# Altium footprint library Capacitors.PcbLib: 46 footprints (part 3 of 3)
Each footprint in its own frame and in the unit in brackets; x right, y up, seen from the top. Pads: shape width x height; smd on the part's side, far side on the other; paste and mask are expansions set on the pad; w line width, h text height; cw(c..) or ccw(c..) is an arc to the next point about the centre after c.
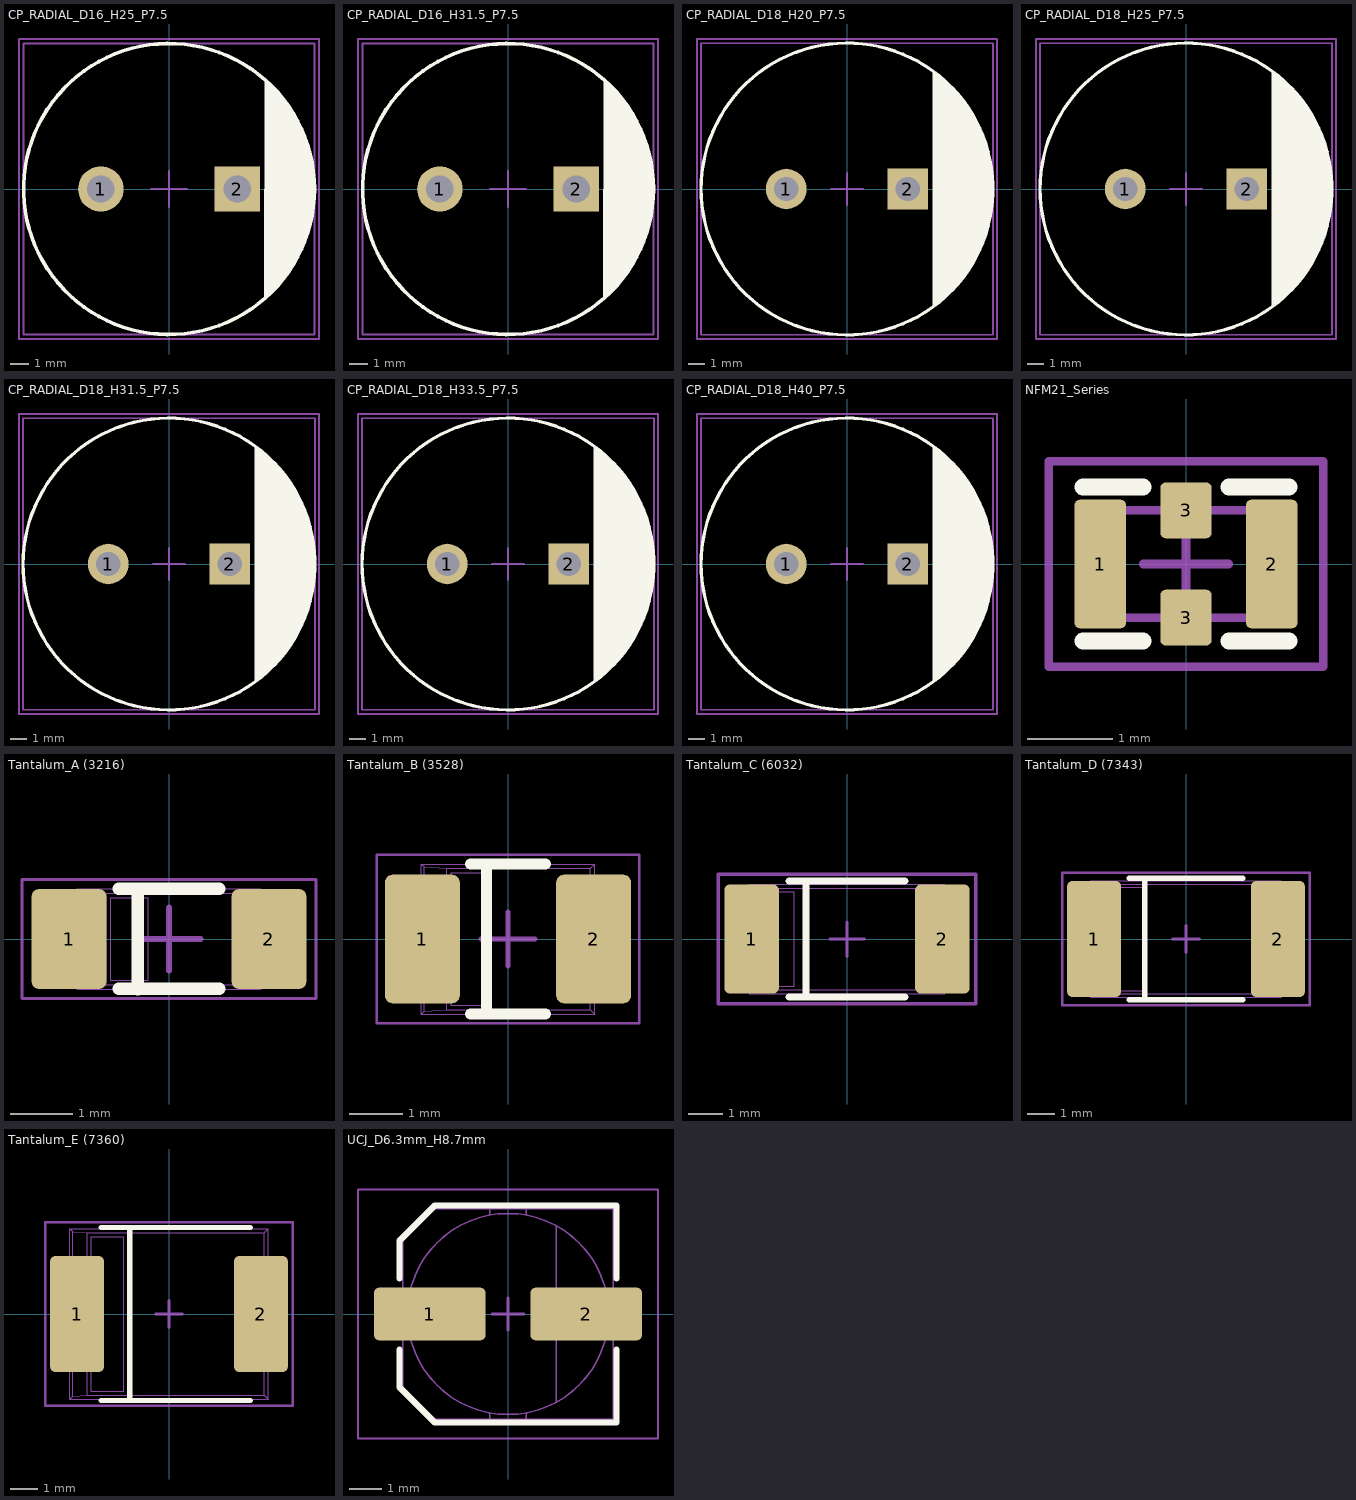
[diagram p2: the footprints below, top view; thin cyan lines are the x and y axes]

## CP_RADIAL_D16_H25_P7.5 [mm]
pads (2):
  round 2.5 hole 1.5 unplated: 1(-3.75,0)
  rect 2.5x2.5 hole 1.5 unplated: 2(3.75,0)
Top Overlay:
  region: 5.268,6.021 5.589,5.74 6.167,5.113 6.676,4.429 7.109,3.694 7.461,2.917 7.729,2.108 7.909,1.274 8,0.426 8,-0.426 7.909,-1.274 7.729,-2.108 7.461,-2.917 7.109,-3.694 6.676,-4.429 6.167,-5.113 5.589,-5.74 5.268,-6.021 5.25,-6
  lines w0.2: 5.268,-6.021 ccw(c0,0) 5.268,6.021 ccw(c0,0) 5.268,-6.021
Mechanical 1:
  lines w0.1: 8,-8 8,8 ; 8,-8 8,-8 ; 8,-8 -8,-8 -8,8 8,8 ; 8,8 8,8
Mechanical 3:
  lines w0.1: -1,0 1,0 ; 0,-1 0,1 ; -8.25,-8.25 8.25,-8.25 8.25,8.25 -8.25,8.25 -8.25,-8.25
3D body "CP_Radial_D16.00mm_H25.00mm_P7.50mm.STEP": height 25.1, standoff -2.8, extent -8,-7.998 8,7.998

## CP_RADIAL_D16_H31.5_P7.5 [mm]
pads (2):
  round 2.5 hole 1.5 unplated: 1(-3.75,0)
  rect 2.5x2.5 hole 1.5 unplated: 2(3.75,0)
Top Overlay:
  region: 5.268,6.021 5.589,5.74 6.167,5.113 6.676,4.429 7.109,3.694 7.461,2.917 7.729,2.108 7.909,1.274 8,0.426 8,-0.426 7.909,-1.274 7.729,-2.108 7.461,-2.917 7.109,-3.694 6.676,-4.429 6.167,-5.113 5.589,-5.74 5.268,-6.021 5.25,-6
  lines w0.2: 5.268,-6.021 cw(c0,0) 5.268,6.021 cw(c0,0) 5.268,-6.021
Mechanical 1:
  lines w0.1: 8,-8 -8,-8 -8,8 8,8 ; 8,-8 8,-8 ; 8,-8 8,8 ; 8,8 8,8
Mechanical 15:
  lines w0.1: -1,0 1,0 ; 0,-1 0,1 ; -8.25,-8.25 -8.25,8.25 8.25,8.25 8.25,-8.25 -8.25,-8.25
3D body "CP_Radial_D16.00mm_H31.50mm_P7.50mm.STEP": height 31.6, standoff -2.8, extent -8,-7.999 8,7.999

## CP_RADIAL_D18_H20_P7.5 [mm]
pads (2):
  round 2.5 hole 1.5 unplated: 1(-3.75,0)
  rect 2.5x2.5 hole 1.5 unplated: 2(3.75,0)
Top Overlay:
  region: 5.279,7.289 5.623,7.04 6.262,6.479 6.844,5.86 7.366,5.188 7.823,4.471 8.209,3.714 8.523,2.923 8.76,2.107 8.92,1.272 9,0.425 9,-0.425 8.92,-1.272 8.76,-2.107 8.523,-2.923 8.209,-3.714 7.823,-4.471 7.366,-5.188 6.844,-5.86 6.262,-6.479 5.623,-7.04 5.279,-7.289 5.279,-7.29
  lines w0.2: 5.279,-7.289 ccw(c0,0) 5.279,7.289 ccw(c0,0) 5.279,-7.29
Mechanical 1:
  lines w0.1: -9,-8.999 -9,8.999 9,8.999 9,-8.999 -9,-8.999
Mechanical 15:
  lines w0.1: -1,0 1,0 ; 0,-1 0,1 ; -9.25,-9.25 -9.25,9.25 9.25,9.25 9.25,-9.25 -9.25,-9.25
3D body "CP_Radial_D18.00mm_H20.00mm_P7.50mm.STEP": height 20.1, standoff -2.8, extent -9,-8.999 9,8.999

## CP_RADIAL_D18_H25_P7.5 [mm]
pads (2):
  round 2.5 hole 1.5 unplated: 1(-3.75,0)
  rect 2.5x2.5 hole 1.5 unplated: 2(3.75,0)
Top Overlay:
  region: 5.279,7.289 5.623,7.04 6.262,6.479 6.844,5.86 7.366,5.188 7.823,4.471 8.209,3.714 8.523,2.923 8.76,2.107 8.92,1.272 9,0.425 9,-0.425 8.92,-1.272 8.76,-2.107 8.523,-2.923 8.209,-3.714 7.823,-4.471 7.366,-5.188 6.844,-5.86 6.262,-6.479 5.623,-7.04 5.279,-7.289 5.279,-7.29
  lines w0.2: 5.279,-7.289 ccw(c0,0) 5.279,7.289 ccw(c0,0) 5.279,-7.29
Mechanical 1:
  lines w0.1: -9,-8.999 -9,8.999 9,8.999 9,-8.999 -9,-8.999
Mechanical 15:
  lines w0.1: -1,0 1,0 ; 0,-1 0,1 ; -9.25,-9.25 -9.25,9.25 9.25,9.25 9.25,-9.25 -9.25,-9.25
3D body "CP_Radial_D18.00mm_H25.00mm_P7.50mm.STEP": height 25.1, standoff -2.8, extent -9,-8.998 9,8.998

## CP_RADIAL_D18_H31.5_P7.5 [mm]
pads (2):
  round 2.5 hole 1.5 unplated: 1(-3.75,0)
  rect 2.5x2.5 hole 1.5 unplated: 2(3.75,0)
Top Overlay:
  region: 5.279,7.289 5.623,7.04 6.262,6.479 6.844,5.86 7.366,5.188 7.823,4.471 8.209,3.714 8.523,2.923 8.76,2.107 8.92,1.272 9,0.425 9,-0.425 8.92,-1.272 8.76,-2.107 8.523,-2.923 8.209,-3.714 7.823,-4.471 7.366,-5.188 6.844,-5.86 6.262,-6.479 5.623,-7.04 5.279,-7.289 5.279,-7.29
  lines w0.2: 5.279,-7.29 cw(c0,0) 5.279,7.289 cw(c0,0) 5.279,-7.289
Mechanical 1:
  lines w0.1: -9,-8.999 9,-8.999 9,8.999 -9,8.999 -9,-8.999
Mechanical 15:
  lines w0.1: -1,0 1,0 ; 0,-1 0,1 ; -9.25,-9.25 9.25,-9.25 9.25,9.25 -9.25,9.25 -9.25,-9.25
3D body "CP_Radial_D18.00mm_H31.50mm_P7.50mm.STEP": height 31.6, standoff -2.8, extent -9,-8.999 9,8.999

## CP_RADIAL_D18_H33.5_P7.5 [mm]
pads (2):
  round 2.5 hole 1.5 unplated: 1(-3.75,0)
  rect 2.5x2.5 hole 1.5 unplated: 2(3.75,0)
Top Overlay:
  region: 5.279,7.289 5.623,7.04 6.262,6.479 6.844,5.86 7.366,5.188 7.823,4.471 8.209,3.714 8.523,2.923 8.76,2.107 8.92,1.272 9,0.425 9,-0.425 8.92,-1.272 8.76,-2.107 8.523,-2.923 8.209,-3.714 7.823,-4.471 7.366,-5.188 6.844,-5.86 6.262,-6.479 5.623,-7.04 5.279,-7.289 5.279,-7.29
  lines w0.2: 5.279,-7.289 ccw(c0,0) 5.279,7.289 ccw(c0,0) 5.279,-7.29
Mechanical 1:
  lines w0.1: -9,-8.999 -9,8.999 9,8.999 9,-8.999 -9,-8.999
Mechanical 15:
  lines w0.1: -1,0 1,0 ; 0,-1 0,1 ; -9.25,-9.25 -9.25,9.25 9.25,9.25 9.25,-9.25 -9.25,-9.25
3D body "CP_Radial_D18.00mm_H33.50mm_P7.50mm.STEP": height 33.6, standoff -2.8, extent -9,-9 9,9

## CP_RADIAL_D18_H40_P7.5 [mm]
pads (2):
  round 2.5 hole 1.5 unplated: 1(-3.75,0)
  rect 2.5x2.5 hole 1.5 unplated: 2(3.75,0)
Top Overlay:
  region: 5.279,7.289 5.623,7.04 6.262,6.479 6.844,5.86 7.366,5.188 7.823,4.471 8.209,3.714 8.523,2.923 8.76,2.107 8.92,1.272 9,0.425 9,-0.425 8.92,-1.272 8.76,-2.107 8.523,-2.923 8.209,-3.714 7.823,-4.471 7.366,-5.188 6.844,-5.86 6.262,-6.479 5.623,-7.04 5.279,-7.289 5.279,-7.29
  lines w0.2: 5.279,-7.29 cw(c0,0) 5.279,7.289 cw(c0,0) 5.279,-7.289
Mechanical 1:
  lines w0.1: -9,-8.999 9,-8.999 9,8.999 -9,8.999 -9,-8.999
Mechanical 15:
  lines w0.1: -1,0 1,0 ; 0,-1 0,1 ; -9.25,-9.25 9.25,-9.25 9.25,9.25 -9.25,9.25 -9.25,-9.25
3D body "CP_Radial_D18.00mm_H40.00mm_P7.50mm.STEP": height 40.1, standoff -2.8, extent -9,-8.996 9,8.996

## NFM21_Series [mm]
pads (4):
  rrect20% 0.6x1.5 smd: 1(-1,0) 2(1,0)
  rrect20% 0.6x0.65 smd: 3(0,-0.625) 3(0,0.625)
Top Overlay:
  lines w0.2: -1.2,-0.9 -0.5,-0.9 ; -1.2,0.9 -0.5,0.9 ; 0.5,-0.9 1.2,-0.9 ; 0.5,0.9 1.2,0.9
Mechanical 1:
  lines w0.1: -1,-0.625 -1,0.625 1,0.625 1,-0.625 -1,-0.625
Mechanical 15:
  lines w0.1: -0.5,0 0.5,0 ; 0,-0.5 0,0.5 ; -1.6,-1.2 -1.6,1.2 1.6,1.2 1.6,-1.2 -1.6,-1.2
3D body "Murata NFM21.STEP": height 0.95, standoff 0, extent -1,-0.625 1,0.625

## Tantalum_A (3216) [mm] "Tantalum Chip Capacitor, 2-Leads, Body 3.2x1.6mm, IPC Medium Density"
pads (2):
  rrect20% 1.2x1.6 smd: 1(-1.6,0) 2(1.6,0)
Top Overlay:
  lines w0.2: -0.8,-0.8 0.8,-0.8 ; -0.8,0.8 0.8,0.8 ; -0.5,-0.8 -0.5,0.8
Mechanical 1:
  lines w0.01: -1.6,-0.2 -1.47,-0.2 ; -1.6,0.2 -1.47,0.2 ; -1.513,-0.6 -1.513,-0.2 ; -1.513,0.2 -1.513,0.6 ; -1.47,-0.6 -1.6,-0.6 -1.6,0.6 -1.47,0.6 ; 1.47,-0.6 1.6,-0.6 1.6,0.6 1.47,0.6 ; 1.513,-0.6 1.513,0.6 ; -1.47,-0.8 1.47,-0.8 ; -1.47,-0.8 -1.428,-0.758 ; -1.47,-0.8 -1.47,0.8 ; -1.47,0.8 -1.428,0.758 ; -1.47,0.8 1.47,0.8 ; -1.428,-0.758 -1.428,0.758 ; -1.428,-0.758 -1,-0.73 ; -1.428,0.758 -1,0.73 ; -1,-0.73 -1,0.73 ; -1,-0.73 1.4,-0.73 ; -1,0.73 1.4,0.73 ; 1.4,-0.73 1.47,-0.8 ; 1.4,-0.73 1.4,0.73 ; 1.4,0.73 1.47,0.8 ; 1.47,-0.8 1.47,0.8 ; -0.931,-0.661 -0.331,-0.661 -0.331,0.661 -0.931,0.661 -0.931,-0.661
Mechanical 15:
  lines w0.05: -2.35,-0.95 2.35,-0.95 2.35,0.95 -2.35,0.95 -2.35,-0.95
  lines w0.1: -0.5,0 0.5,0 ; 0,-0.5 0,0.5
3D body "CP_EIA-3216-18_Kemet-A.step": height 1.8, standoff 0, extent -1.6,-0.8 1.6,0.8

## Tantalum_B (3528) [mm] "Tantalum Chip Capacitor, 2-Leads, Body 3.5x2.8mm, IPC Medium Density"
pads (2):
  rrect20% 1.4x2.4 smd: 1(-1.6,0) 2(1.6,0)
Top Overlay:
  lines w0.2: -0.7,-1.4 0.7,-1.4 ; -0.7,1.4 0.7,1.4 ; -0.4,-1.4 -0.4,1.4
Mechanical 1:
  lines w0.01: -1.75,-0.5 -1.62,-0.5 ; -1.75,0.5 -1.62,0.5 ; -1.663,-1.1 -1.663,-0.5 ; -1.663,0.5 -1.663,1.1 ; -1.62,-1.1 -1.75,-1.1 -1.75,1.1 -1.62,1.1 ; 1.62,-1.1 1.75,-1.1 1.75,1.1 1.62,1.1 ; 1.663,-1.1 1.663,1.1 ; -1.62,-1.4 1.62,-1.4 ; -1.62,-1.4 -1.567,-1.347 ; -1.62,-1.4 -1.62,1.4 ; -1.62,1.4 1.62,1.4 ; -1.62,1.4 -1.567,1.347 ; -1.567,-1.347 -1.139,-1.319 ; -1.567,-1.347 -1.567,1.347 ; -1.567,1.347 -1.139,1.319 ; -1.139,-1.319 -1.139,1.319 ; -1.139,-1.319 1.539,-1.319 ; -1.139,1.319 1.539,1.319 ; 1.539,-1.319 1.539,1.319 ; 1.539,-1.319 1.62,-1.4 ; 1.539,1.319 1.62,1.4 ; 1.62,-1.4 1.62,1.4 ; -1.058,-1.238 -1.058,1.238 -0.458,1.238 -0.458,-1.238 -1.058,-1.238
Mechanical 15:
  lines w0.05: -2.45,-1.575 2.45,-1.575 2.45,1.575 -2.45,1.575 -2.45,-1.575
  lines w0.1: -0.5,0 0.5,0 ; 0,-0.5 0,0.5
3D body "CP_EIA-3528-21_Kemet-B.step": height 2.1, standoff 0, extent -1.75,-1.4 1.75,1.4

## Tantalum_C (6032) [mm] "Tantalum Chip Capacitor, 2-Leads, Body 6.0x3.2mm, IPC Medium Density"
pads (2):
  rrect20% 1.6x3.2 smd: 1(-2.8,0) 2(2.8,0)
Top Overlay:
  lines w0.2: -1.7,-1.7 1.7,-1.7 ; -1.7,1.7 1.7,1.7 ; -1.2,-1.7 -1.2,1.7
Mechanical 1:
  lines w0.01: -3,-0.5 -2.87,-0.5 ; -3,0.5 -2.87,0.5 ; -2.913,-1.1 -2.913,-0.5 ; -2.913,0.5 -2.913,1.1 ; -2.87,-1.1 -3,-1.1 -3,1.1 -2.87,1.1 ; 2.87,-1.1 3,-1.1 3,1.1 2.87,1.1 ; 2.913,-1.1 2.913,1.1 ; -2.87,-1.6 2.87,-1.6 ; -2.87,-1.6 -2.797,-1.527 ; -2.87,-1.6 -2.87,1.6 ; -2.87,1.6 2.87,1.6 ; -2.87,1.6 -2.797,1.527 ; -2.797,-1.527 -2.262,-1.492 ; -2.797,-1.527 -2.797,1.527 ; -2.797,1.527 -2.262,1.492 ; -2.262,-1.492 2.762,-1.492 ; -2.262,-1.492 -2.262,1.492 ; -2.262,1.492 2.762,1.492 ; 2.762,-1.492 2.87,-1.6 ; 2.762,-1.492 2.762,1.492 ; 2.762,1.492 2.87,1.6 ; 2.87,-1.6 2.87,1.6 ; -2.154,-1.384 -1.554,-1.384 -1.554,1.384 -2.154,1.384 -2.154,-1.384
Mechanical 15:
  lines w0.1: -0.5,0 0.5,0 ; 0,-0.5 0,0.5 ; -3.775,-1.9 3.775,-1.9 3.775,1.9 -3.775,1.9 -3.775,-1.9
3D body "CP_EIA-6032-28_Kemet-C.step": height 2.8, standoff 0, extent -3,-1.6 3,1.6

## Tantalum_D (7343) [mm] "Tantalum Chip Capacitor, 2-Leads, Body 7.3x4.3mm, IPC Medium Density"
pads (2):
  rrect20% 2x4.3 smd: 1(-3.4,0) 2(3.4,0)
Top Overlay:
  lines w0.2: -2.1,-2.25 2.1,-2.25 ; -2.1,2.25 2.1,2.25 ; -1.525,-2.2 -1.525,2.2
Mechanical 1:
  lines w0.01: -3.65,-0.5 -3.52,-0.5 ; -3.65,0.5 -3.52,0.5 ; -3.563,-1.2 -3.563,-0.5 ; -3.563,0.5 -3.563,1.2 ; -3.52,-1.2 -3.65,-1.2 -3.65,1.2 -3.52,1.2 ; 3.52,-1.2 3.65,-1.2 3.65,1.2 3.52,1.2 ; 3.563,-1.2 3.563,1.2 ; -3.52,-2.15 -3.52,2.15 ; -3.52,-2.15 -3.435,-2.065 ; -3.52,-2.15 3.52,-2.15 ; -3.52,2.15 -3.435,2.065 ; -3.52,2.15 3.52,2.15 ; -3.435,-2.065 -3.435,2.065 ; -3.435,-2.065 -2.9,-2.03 ; -3.435,2.065 -2.9,2.03 ; -2.9,-2.03 -2.9,2.03 ; -2.9,-2.03 3.4,-2.03 ; -2.9,2.03 3.4,2.03 ; 3.4,-2.03 3.52,-2.15 ; 3.4,-2.03 3.4,2.03 ; 3.4,2.03 3.52,2.15 ; 3.52,-2.15 3.52,2.15 ; -2.78,-1.91 -1.58,-1.91 -1.58,1.91 -2.78,1.91 -2.78,-1.91
Mechanical 15:
  lines w0.1: -0.5,0 0.5,0 ; 0,-0.5 0,0.5 ; -4.575,-2.45 4.575,-2.45 4.575,2.45 -4.575,2.45 -4.575,-2.45
3D body "CP_EIA-7343-31_Kemet-D.step": height 3.1, standoff 0, extent -3.65,-2.15 3.65,2.15

## Tantalum_E (7360) [mm] "Tantalum Chip Capacitor, 2-Leads, Body 7.3x6.0mm, IPC Medium Density"
height 2.9
pads (2):
  rrect20% 2x4.3 smd: 1(-3.4,0) 2(3.4,0)
Top Overlay:
  lines w0.2: -2.5,-3.2 3,-3.2 ; -2.5,3.2 3,3.2 ; -1.45,-3.2 -1.45,3.2
Mechanical 1:
  lines w0.01: -3.8,-1 -3.67,-1 ; -3.8,1 -3.67,1 ; -3.713,-2.05 -3.713,-1 ; -3.713,1 -3.713,2.05 ; -3.67,-2.05 -3.8,-2.05 -3.8,2.05 -3.67,2.05 ; 3.67,-2.05 3.8,-2.05 3.8,2.05 3.67,2.05 ; 3.713,-2.05 3.713,2.05 ; -3.67,-3.15 3.67,-3.15 ; -3.67,-3.15 -3.558,-3.038 ; -3.67,-3.15 -3.67,3.15 ; -3.67,3.15 3.67,3.15 ; -3.67,3.15 -3.558,3.038 ; -3.558,-3.038 -3.023,-3.003 ; -3.558,-3.038 -3.558,3.038 ; -3.558,3.038 -3.023,3.003 ; -3.023,-3.003 3.523,-3.003 ; -3.023,-3.003 -3.023,3.003 ; -3.023,3.003 3.523,3.003 ; 3.523,-3.003 3.67,-3.15 ; 3.523,-3.003 3.523,3.003 ; 3.523,3.003 3.67,3.15 ; 3.67,-3.15 3.67,3.15 ; -2.876,-2.856 -1.676,-2.856 -1.676,2.856 -2.876,2.856 -2.876,-2.856
Mechanical 15:
  lines w0.1: -0.5,0 0.5,0 ; 0,-0.5 0,0.5 ; -4.575,-3.4 -4.575,3.4 4.575,3.4 4.575,-3.4 -4.575,-3.4
3D body "CP_EIA-7360-38_Kemet-E.step": height 3.8, standoff 0, extent -3.8,-3.15 3.8,3.15

## UCJ_D6.3mm_H8.7mm [mm] "Aluminum Electrolytic Capacitor, Body 6.60x6.60x8.70mm, IPC Medium Density"
height 8.7
pads (2):
  rrect20% 3.5x1.65 smd: 1(-2.45,0) 2(2.45,0)
Top Overlay:
  lines w0.2: -3.4,-1.125 -3.4,-2.3 -2.3,-3.4 3.4,-3.4 3.4,-1.125 ; -3.4,1.125 -3.4,2.3 -2.3,3.4 3.4,3.4 3.4,1.125
Mechanical 1:
  circle w0.05: c0,0 r3.15
  lines w0.05: -3.3,-0.575 -3.097,-0.575 ; -3.3,-0.4 -3.79,-0.4 ; -3.3,-0.39 -3.8,-0.39 ; -3.3,0.39 -3.8,0.39 ; -3.3,0.4 -3.79,0.4 ; -3.3,0.575 -3.097,0.575 ; -0.575,-3.3 -0.575,-3.097 ; -0.575,3.097 -0.575,3.3 ; 0.575,-3.3 0.575,-3.097 ; 0.575,3.097 0.575,3.3 ; 1.512,-2.763 1.512,-2.62 1.512,2.62 1.512,2.763 ; 3.097,-0.575 3.3,-0.575 ; 3.097,0.575 3.3,0.575 ; 3.3,-0.4 3.79,-0.4 ; 3.3,-0.39 3.8,-0.39 ; 3.3,0.39 3.8,0.39 ; 3.3,0.4 3.79,0.4 ; -3.8,-0.39 ccw(c-3.79,-0.39) -3.79,-0.4 ; -3.8,-0.39 -3.8,0.39 ; -3.8,0.39 cw(c-3.79,0.39) -3.79,0.4 ; -3.79,-0.4 -3.79,0.4 ; 3.79,-0.4 ccw(c3.79,-0.39) 3.8,-0.39 ; 3.79,-0.4 3.79,0.4 ; 3.79,0.4 cw(c3.79,0.39) 3.8,0.39 ; 3.8,-0.39 3.8,0.39 ; -3.3,-2.3 -2.3,-3.3 3.3,-3.3 3.3,3.3 -2.3,3.3 -3.3,2.3 -3.3,-2.3
Mechanical 15:
  lines w0.05: -4.7,-3.9 4.7,-3.9 4.7,3.9 -4.7,3.9 -4.7,-3.9
  lines w0.1: -0.5,0 0.5,0 ; 0,-0.5 0,0.5
3D body "UCJ_D6.3mm_L8.7mm.STEP": height 8.7, standoff 0, extent -3.8,-3.3 3.8,3.3